# Altium integrated library SIM4G.IntLib: 5 symbols
Pins are listed as number, name and electrical type; pins without a type are passive.

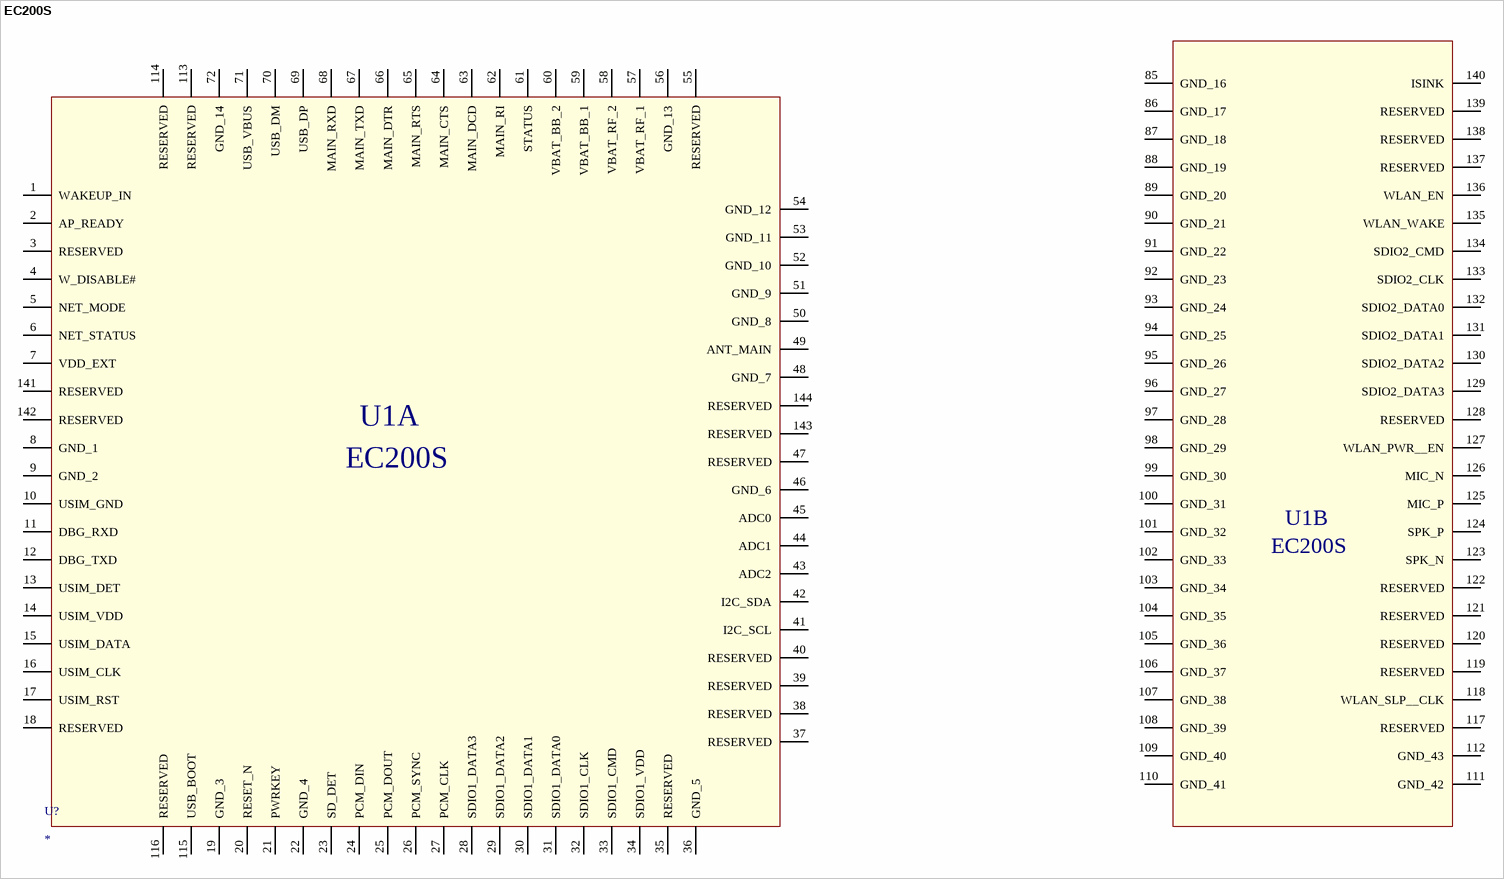
[diagram p0: symbol EC200S]

## EC200S
designator U?
GMS/4G-LTE
footprint EC200U
pins: 1 WAKEUP_IN, 2 AP_READY, 3 RESERVED, 4 W_DISABLE#, 5 NET_MODE, 6 NET_STATUS, 7 VDD_EXT, 8 GND_1, 9 GND_2, 10 USIM_GND, 11 DBG_RXD, 12 DBG_TXD, 13 USIM_DET, 14 USIM_VDD, 15 USIM_DATA, 16 USIM_CLK, 17 USIM_RST, 18 RESERVED, 19 GND_3, 20 RESET_N, 21 PWRKEY, 22 GND_4, 23 SD_DET, 24 PCM_DIN, 25 PCM_DOUT, 26 PCM_SYNC, 27 PCM_CLK, 28 SDIO1_DATA3, 29 SDIO1_DATA2, 30 SDIO1_DATA1, 31 SDIO1_DATA0, 32 SDIO1_CLK, 33 SDIO1_CMD, 34 SDIO1_VDD, 35 RESERVED, 36 GND_5, 37 RESERVED, 38 RESERVED, 39 RESERVED, 40 RESERVED, 41 I2C_SCL, 42 I2C_SDA, 43 ADC2, 44 ADC1, 45 ADC0, 46 GND_6, 47 RESERVED, 48 GND_7, 49 ANT_MAIN, 50 GND_8, 51 GND_9, 52 GND_10, 53 GND_11, 54 GND_12, 55 RESERVED, 56 GND_13, 57 VBAT_RF_1, 58 VBAT_RF_2, 59 VBAT_BB_1, 60 VBAT_BB_2, 61 STATUS, 62 MAIN_RI, 63 MAIN_DCD, 64 MAIN_CTS, 65 MAIN_RTS, 66 MAIN_DTR, 67 MAIN_TXD, 68 MAIN_RXD, 69 USB_DP, 70 USB_DM, 71 USB_VBUS, 72 GND_14, 85 GND_16, 86 GND_17, 87 GND_18, 88 GND_19, 89 GND_20, 90 GND_21, 91 GND_22, 92 GND_23, 93 GND_24, 94 GND_25, 95 GND_26, 96 GND_27, 97 GND_28, 98 GND_29, 99 GND_30, 100 GND_31, 101 GND_32, 102 GND_33, 103 GND_34, 104 GND_35, 105 GND_36, 106 GND_37, 107 GND_38, 108 GND_39, 109 GND_40, 110 GND_41, 111 GND_42, 112 GND_43, 113 RESERVED, 114 RESERVED, 115 USB_BOOT, 116 RESERVED, 117 RESERVED, 118 WLAN_SLP__CLK, 119 RESERVED, 120 RESERVED, 121 RESERVED, 122 RESERVED, 123 SPK_N, 124 SPK_P, 125 MIC_P, 126 MIC_N, 127 WLAN_PWR__EN, 128 RESERVED, 129 SDIO2_DATA3, 130 SDIO2_DATA2, 131 SDIO2_DATA1, 132 SDIO2_DATA0, 133 SDIO2_CLK, 134 SDIO2_CMD, 135 WLAN_WAKE, 136 WLAN_EN, 137 RESERVED, 138 RESERVED, 139 RESERVED, 140 ISINK, 141 RESERVED, 142 RESERVED, 143 RESERVED, 144 RESERVED
text: U1A; U1B


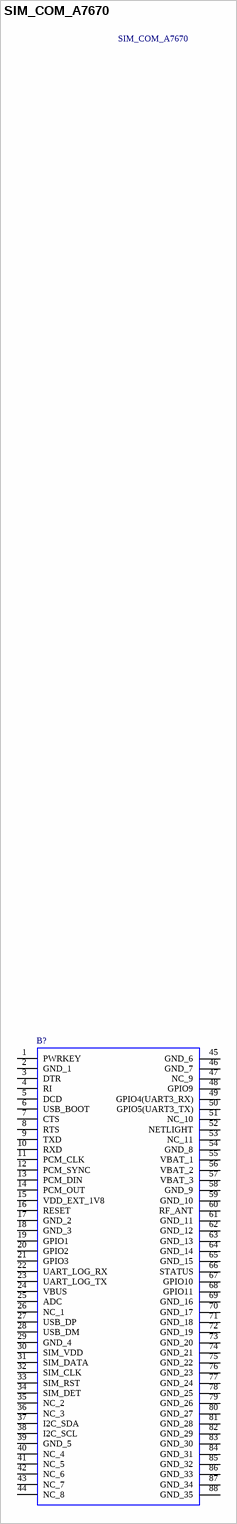
[diagram p1: symbol SIM_COM_A7670]

## SIM_COM_A7670
designator B?
A7670 Series Hardware Design; Manufacturer_Name: Sim Com; Manufacturer_Part_Number: SIM COM A7670; Geometry.Height: 2.7mm; Mouser Part Number: *; Mouser Price/Stock: *; Arrow Part Number: *; Arrow Price/Stock: *; Mouser Testing Part Number: *; Mouser Testing Price/Stock: *; Datasheet Link: http://nostris.ee/pdf/A7670%20Series%20Hardware%20Design_V1.00.pdf
footprint SIMCOMA7670
pins: 1 PWRKEY, 2 GND_1, 3 DTR, 4 RI, 5 DCD, 6 USB_BOOT, 7 CTS, 8 RTS, 9 TXD, 10 RXD, 11 PCM_CLK, 12 PCM_SYNC, 13 PCM_DIN, 14 PCM_OUT, 15 VDD_EXT_1V8, 16 RESET, 17 GND_2, 18 GND_3, 19 GPIO1, 20 GPIO2, 21 GPIO3, 22 UART_LOG_RX, 23 UART_LOG_TX, 24 VBUS, 25 ADC, 26 NC_1, 27 USB_DP, 28 USB_DM, 29 GND_4, 30 SIM_VDD, 31 SIM_DATA, 32 SIM_CLK, 33 SIM_RST, 34 SIM_DET, 35 NC_2, 36 NC_3, 37 I2C_SDA, 38 I2C_SCL, 39 GND_5, 40 NC_4, 41 NC_5, 42 NC_6, 43 NC_7, 44 NC_8, 45 GND_6, 46 GND_7, 47 NC_9, 48 GPIO9, 49 GPIO4(UART3_RX), 50 GPIO5(UART3_TX), 51 NC_10, 52 NETLIGHT, 53 NC_11, 54 GND_8, 55 VBAT_1, 56 VBAT_2, 57 VBAT_3, 58 GND_9, 59 GND_10, 60 RF_ANT, 61 GND_11, 62 GND_12, 63 GND_13, 64 GND_14, 65 GND_15, 66 STATUS, 67 GPIO10, 68 GPIO11, 69 GND_16, 70 GND_17, 71 GND_18, 72 GND_19, 73 GND_20, 74 GND_21, 75 GND_22, 76 GND_23, 77 GND_24, 78 GND_25, 79 GND_26, 80 GND_27, 81 GND_28, 82 GND_29, 83 GND_30, 84 GND_31, 85 GND_32, 86 GND_33, 87 GND_34, 88 GND_35


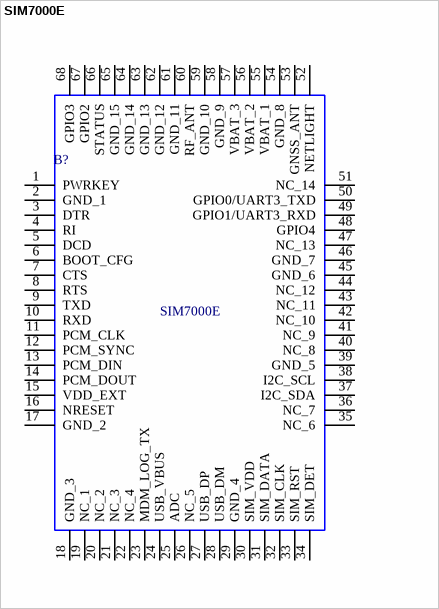
[diagram p2: symbol SIM7000E]

## SIM7000E
designator B?
Series module, 68 pin; Manufacturer_Name: SIMCOM; Manufacturer_Part_Number: SIM7000E; Mouser Part Number: *; Mouser Price/Stock: *; Arrow Part Number: *; Arrow Price/Stock: *; Mouser Testing Part Number: *; Mouser Testing Price/Stock: *; Datasheet Link: *
footprint SIM7000
pins: 1 PWRKEY, 2 GND_1, 3 DTR, 4 RI, 5 DCD, 6 BOOT_CFG, 7 CTS, 8 RTS, 9 TXD, 10 RXD, 11 PCM_CLK, 12 PCM_SYNC, 13 PCM_DIN, 14 PCM_DOUT, 15 VDD_EXT, 16 NRESET, 17 GND_2, 18 GND_3, 19 NC_1, 20 NC_2, 21 NC_3, 22 NC_4, 23 MDM_LOG_TX, 24 USB_VBUS, 25 ADC, 26 NC_5, 27 USB_DP, 28 USB_DM, 29 GND_4, 30 SIM_VDD, 31 SIM_DATA, 32 SIM_CLK, 33 SIM_RST, 34 SIM_DET, 35 NC_6, 36 NC_7, 37 I2C_SDA, 38 I2C_SCL, 39 GND_5, 40 NC_8, 41 NC_9, 42 NC_10, 43 NC_11, 44 NC_12, 45 GND_6, 46 GND_7, 47 NC_13, 48 GPIO4, 49 GPIO1/UART3_RXD, 50 GPIO0/UART3_TXD, 51 NC_14, 52 NETLIGHT, 53 GNSS_ANT, 54 GND_8, 55 VBAT_1, 56 VBAT_2, 57 VBAT_3, 58 GND_9, 59 GND_10, 60 RF_ANT, 61 GND_11, 62 GND_12, 63 GND_13, 64 GND_14, 65 GND_15, 66 STATUS, 67 GPIO2, 68 GPIO3


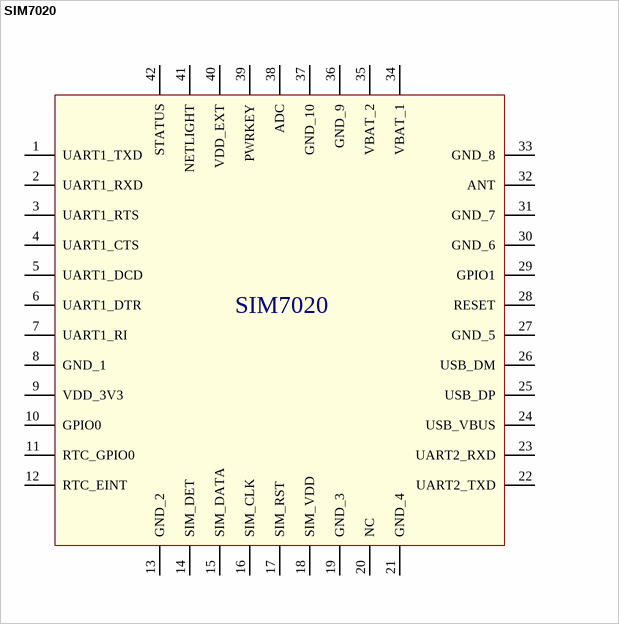
[diagram p3: symbol SIM7020]

## SIM7020
designator B?
CAT-M1/NB-IoT; Manufacturer_Name: SIMCOM; Geometry.Height: 2.5mm; Manufacturer_Part_Number: SIM7020; Mouser Part Number: *; Mouser Price/Stock: *; Arrow Part Number: *; Arrow Price/Stock: *; Mouser Testing Part Number: *; Mouser Testing Price/Stock: *; Datasheet Link: *
footprint SIM7020
pins: 1 UART1_TXD, 2 UART1_RXD, 3 UART1_RTS, 4 UART1_CTS, 5 UART1_DCD, 6 UART1_DTR, 7 UART1_RI, 8 GND_1, 9 VDD_3V3, 10 GPIO0, 11 RTC_GPIO0, 12 RTC_EINT, 13 GND_2, 14 SIM_DET, 15 SIM_DATA, 16 SIM_CLK, 17 SIM_RST, 18 SIM_VDD, 19 GND_3, 20 NC, 21 GND_4, 22 UART2_TXD, 23 UART2_RXD, 24 USB_VBUS, 25 USB_DP, 26 USB_DM, 27 GND_5, 28 RESET, 29 GPIO1, 30 GND_6, 31 GND_7, 32 ANT, 33 GND_8, 34 VBAT_1, 35 VBAT_2, 36 GND_9, 37 GND_10, 38 ADC, 39 PWRKEY, 40 VDD_EXT, 41 NETLIGHT, 42 STATUS


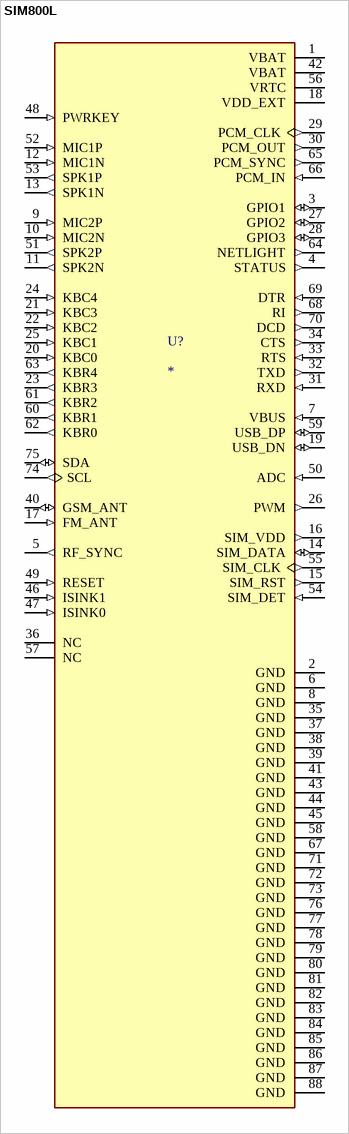
[diagram p4: symbol SIM800L]

## SIM800L
designator U?
SIM800L GSM RF M5Stack Platform Evaluation Expansion Board; MF: Simcom; Availability: Not in stock; MP: SIM800L; Check_prices: https://www.snapeda.com/parts/SIM800L/SIMcom+Wireless+solutions+Co.%252CLtd/view-part/?ref=eda; Value: *; SnapEDA_Link: https://www.snapeda.com/parts/SIM800L/SIMcom+Wireless+solutions+Co.%252CLtd/view-part/?ref=snap; Price: None; Package: None
footprint MODULE_SIM800L
pins: 1 VBAT (power), 2 GND (power), 3 GPIO1 (io), 4 STATUS (out), 5 RF_SYNC (out), 6 GND (power), 7 VBUS (in), 8 GND (power), 9 MIC2P (in), 10 MIC2N (in), 11 SPK2N (out), 12 MIC1N (in), 13 SPK1N (out), 14 SIM_DATA (io), 15 SIM_RST (out), 16 SIM_VDD (out), 17 FM_ANT (in), 18 VDD_EXT (power), 19 USB_DN (io), 20 KBC0 (in), 21 KBC3 (in), 22 KBC2 (in), 23 KBR3 (out), 24 KBC4 (in), 25 KBC1 (in), 26 PWM (out), 27 GPIO2 (io), 28 GPIO3 (io), 29 PCM_CLK (out), 30 PCM_OUT (out), 31 RXD (in), 32 TXD (out), 33 RTS (in), 34 CTS (out), 35 GND (power), 36 NC, 37 GND (power), 38 GND (power), 39 GND (power), 40 GSM_ANT (io), 41 GND (power), 42 VBAT (power), 43 GND (power), 44 GND (power), 45 GND (power), 46 ISINK1 (in), 47 ISINK0 (in), 48 PWRKEY (in), 49 RESET (in), 50 ADC (in), 51 SPK2P (out), 52 MIC1P (in), 53 SPK1P (out), 54 SIM_DET (in), 55 SIM_CLK (out), 56 VRTC (power), 57 NC, 58 GND (power), 59 USB_DP (io), 60 KBR1 (out), 61 KBR2 (out), 62 KBR0 (out), 63 KBR4 (out), 64 NETLIGHT (out), 65 PCM_SYNC (out), 66 PCM_IN (in), 67 GND (power), 68 RI (out), 69 DTR (in), 70 DCD (out), 71 GND (power), 72 GND (power), 73 GND (power), 74 SCL (out), 75 SDA (io), 76 GND (power), 77 GND (power), 78 GND (power), 79 GND (power), 80 GND (power), 81 GND (power), 82 GND (power), 83 GND (power), 84 GND (power), 85 GND (power), 86 GND (power), 87 GND (power), 88 GND (power)